# Altium footprint library MergenElektronik_Logics_Counters.PcbLib: 1 footprints
Each footprint in its own frame and in the unit in brackets; x right, y up, seen from the top. Pads: shape width x height; smd on the part's side, far side on the other; paste and mask are expansions set on the pad; w line width, h text height; cw(c..) or ccw(c..) is an arc to the next point about the centre after c.
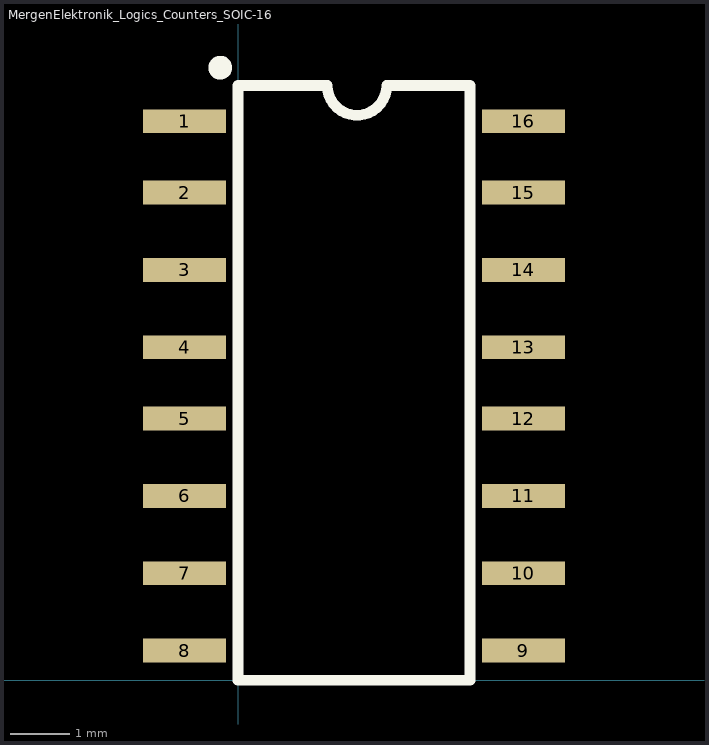
[diagram p0: the footprint, top view; thin cyan lines are the x and y axes]

## MergenElektronik_Logics_Counters_SOIC-16 [mm] "SOIC-16"
pads (16):
  rect 1.4x0.4 smd: 1(-0.9,9.4) 2(-0.9,8.2) 3(-0.9,6.9) 4(-0.9,5.6) 5(-0.9,4.4) 6(-0.9,3.1) 7(-0.9,1.8) 8(-0.9,0.5) 9(4.8,0.5) 10(4.8,1.8) 11(4.8,3.1) 12(4.8,4.4) 13(4.8,5.6) 14(4.8,6.9) 15(4.8,8.2) 16(4.8,9.4)
Top Overlay:
  circle w0.2: c-0.3,10.3 r0.1
  lines w0.18: 0,0 0,10 1.5,10 ccw(c2,10) 2.5,10 3.9,10 3.9,0 0,0
3D body: height 1.55, standoff 0, extent -1.1,0 4.9,9.9